# EAGLE library part UCC37325 (library ic)
UCC37325: Dual MOSFET driver (Texas Instruments) 1* inverting, 1* non-inverting 15V, 300mA Iout, 4.5A Iout pulsed
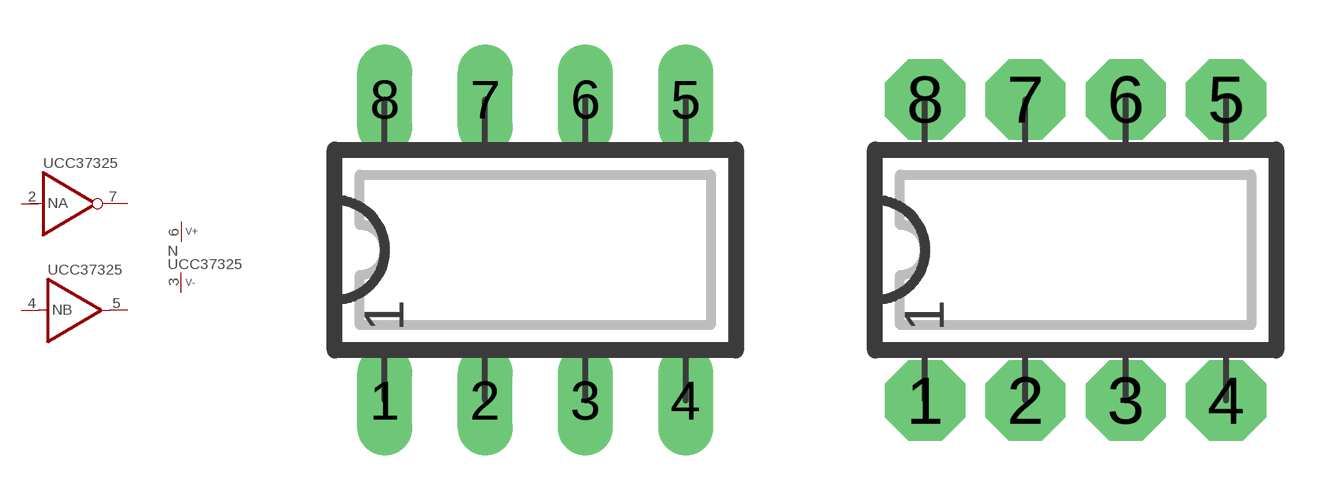
[diagram p76: symbol with the pads of DIP08L; footprints DIP08L, DIP08N]

Designator prefix N; gates A=INV B=BUF_1 P=V+--1

## UCC37325  [DIP08L]
2  A:IN  in
3  P:V-  pwr
4  B:IN  in
5  B:OUT  out
6  P:V+  pwr
7  A:OUT  out

## UCC37325L  [DIP08L]
Pads as for DIP08L

## UCC37325N  [DIP08N]
Pads as for DIP08L

## UCC37325R  [DIP08R]
Pads as for DIP08L

## UCC37325S  [SO08]
Pads as for DIP08L

## Footprint DIP08L (pad centres in mm)
DIP-8, long pads Standard IC package, 8 pins
drill 0.813 pad 1.397 long: 1 -3.81,-3.81; 2 -1.27,-3.81; 3 1.27,-3.81; 4 3.81,-3.81; 5 3.81,3.81; 6 1.27,3.81; 7 -1.27,3.81; 8 -3.81,3.81

## Footprint DIP08N (pad centres in mm)
DIP-8 Standard IC package, 8 pins
drill 0.813 pad 2.032 octagon: 1 -3.81,-3.81; 2 -1.27,-3.81; 3 1.27,-3.81; 4 3.81,-3.81; 5 3.81,3.81; 6 1.27,3.81; 7 -1.27,3.81; 8 -3.81,3.81

## Footprint DIP08R (pad centres in mm)
DIP-8, reduced pads Standard IC package, 8 pins
drill 0.813 pad 1.397 square: 1 -3.81,-3.81; 2 -1.27,-3.81; 3 1.27,-3.81; 4 3.81,-3.81; 5 3.81,3.81; 6 1.27,3.81; 7 -1.27,3.81; 8 -3.81,3.81

## Footprint SO08 (pad centres in mm)
SO-8, SMD SOIC IC package, 8 pins
smd 0.635 x 1.778: 1 -1.905,-2.857; 2 -0.635,-2.857; 3 0.635,-2.857; 4 1.905,-2.857; 5 1.905,2.857; 6 0.635,2.857; 7 -0.635,2.857; 8 -1.905,2.857